# EAGLE library part CC2640F128RHBR (library NetGeeks)
SimpleLink ultra-low power wireless MCU for Bluetooth low energy Source: Datasheet <http://www.ti.com/lit/gpn/cc2640>
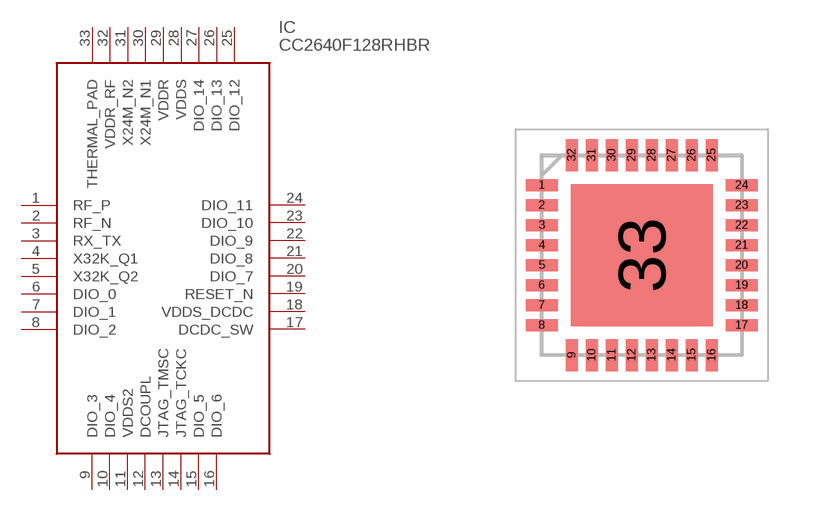
[diagram p2: symbol with the pads of QFN50P500X500X100-33N; footprint QFN50P500X500X100-33N]

Designator prefix IC

## CC2640F128RHBR (Arrow_Part_Number: CC2640F128RHBR; Arrow_Price/Stock: https://www.arrow.com/en/products/cc2640f128rhbr/texas-instruments; Description: SimpleLink ultra-low power wireless MCU for Bluetooth low energy; Height: 1mm; Manufacturer_Name: Texas Instruments; Manufacturer_Part_Number: CC2640F128RHBR)  [QFN50P500X500X100-33N]
1  RF_P
2  RF_N
3  RX_TX
4  X32K_Q1
5  X32K_Q2
6  DIO_0
7  DIO_1
8  DIO_2
9  DIO_3
10  DIO_4
11  VDDS2
12  DCOUPL
13  JTAG_TMSC
14  JTAG_TCKC
15  DIO_5
16  DIO_6
17  DCDC_SW
18  VDDS_DCDC
19  RESET_N
20  DIO_7
21  DIO_8
22  DIO_9
23  DIO_10
24  DIO_11
25  DIO_12
26  DIO_13
27  DIO_14
28  VDDS
29  VDDR
30  X24M_N1
31  X24M_N2
32  VDDR_RF
33  THERMAL_PAD

## Footprint QFN50P500X500X100-33N (pad centres in mm)
RHB (S-PVQFN-N32)
smd 0.8 x 0.3: 1 -2.5,1.75; 2 -2.5,1.25; 3 -2.5,0.75; 4 -2.5,0.25; 5 -2.5,-0.25; 6 -2.5,-0.75; 7 -2.5,-1.25; 8 -2.5,-1.75; 17 2.5,-1.75; 18 2.5,-1.25; 19 2.5,-0.75; 20 2.5,-0.25; 21 2.5,0.25; 22 2.5,0.75; 23 2.5,1.25; 24 2.5,1.75
smd 0.3 x 0.8: 9 -1.75,-2.5; 10 -1.25,-2.5; 11 -0.75,-2.5; 12 -0.25,-2.5; 13 0.25,-2.5; 14 0.75,-2.5; 15 1.25,-2.5; 16 1.75,-2.5; 25 1.75,2.5; 26 1.25,2.5; 27 0.75,2.5; 28 0.25,2.5; 29 -0.25,2.5; 30 -0.75,2.5; 31 -1.25,2.5; 32 -1.75,2.5
smd 3.55 x 3.55: 33 0,0